# Altium schematic symbol library T5848.SchLib: 1 symbol
Pins are listed as number, name and electrical type; pins without a type are passive.

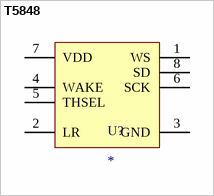
[diagram p0: symbol T5848]

## T5848
designator U?
BOTTOM PORT I2S DIGITAL OUTPUT MIC
pins: 1 WS (power), 2 LR (power), 3 GND (power), 4 WAKE (power), 5 THSEL (power), 6 SCK (power), 7 VDD (power), 8 SD (power)